# Altium footprint library CUI_PJ-102AH.PcbLib: 1 footprints
Each footprint in its own frame and in the unit in brackets; x right, y up, seen from the top. Pads: shape width x height; smd on the part's side, far side on the other; paste and mask are expansions set on the pad; w line width, h text height; cw(c..) or ccw(c..) is an arc to the next point about the centre after c.
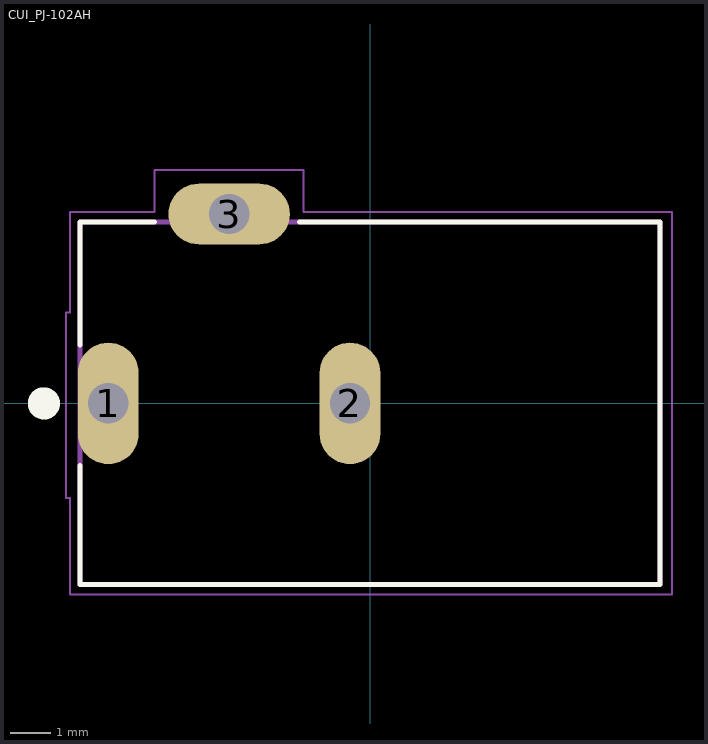
[diagram p0: the footprint, top view; thin cyan lines are the x and y axes]

## CUI_PJ-102AH [mm]
pads (3):
  oval 1.508x3.016 hole 1 square: 1(-6.5,0) 2(-0.5,0)
  oval 3.016x1.508 hole 1 square: 3(-3.5,4.7)
Top Overlay:
  circle w0.4: c-8.1,0 r0.2
  lines w0.127: -7.2,-1.55 -7.2,-4.5 7.2,-4.5 7.2,4.5 -1.75,4.5 ; -7.2,1.45 -7.2,4.5 -5.35,4.5
Assembly Top:
  lines w0.127: -7.2,-4.5 -7.2,4.5 7.2,4.5 7.2,-4.5 -7.2,-4.5
Courtyard Top:
  lines w0.05: -7.55,-2.35 -7.45,-2.35 -7.45,-4.75 7.5,-4.75 7.5,4.75 -1.65,4.75 -1.65,5.8 -5.35,5.8 -5.35,4.75 -7.45,4.75 -7.45,2.25 -7.55,2.25 -7.55,-2.35
3D body "step_temp.STEP": height 11.03, standoff -3.47, extent -7.2,-4.445 7.2,4.955